# EAGLE library part RQ7E100ATTCR (library RQ7E100ATTCR)
RQ7E100ATTCR P-Channel MOSFET, 10 A, 30 V RQ7E100AT, 8-Pin TSMT ROHM Source: Datasheet <https://fscdn.rohm.com/en/products/databook/datasheet/discrete/transistor/mosfet/rq7e100attcr-e.pdf>
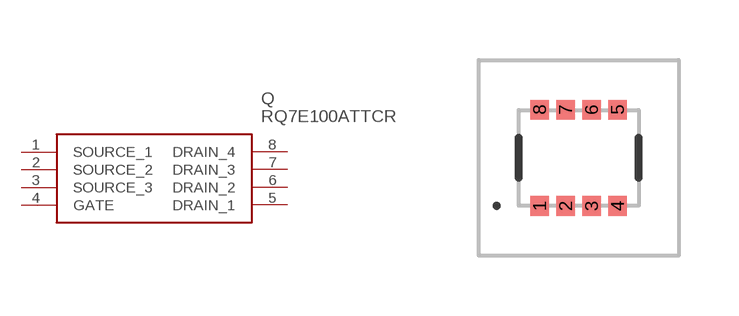
[diagram p0: symbol with the pads of RQ7E100ATTCR; footprint RQ7E100ATTCR]

Designator prefix Q

## RQ7E100ATTCR (Description: RQ7E100ATTCR P-Channel MOSFET, 10 A, 30 V RQ7E100AT, 8-Pin TSMT ROHM; Height: 0.85mm; Manufacturer_Name: ROHM Semiconductor; Manufacturer_Part_Number: RQ7E100ATTCR; Mouser_Part_Number: 755-RQ7E100ATTCR; Mouser_Price-Stock: https://www.mouser.co.uk/ProductDetail/ROHM-Semiconductor/RQ7E100ATTCR?qs=2WXlatMagcEGRiOPPzGC4A%3D%3D)  [RQ7E100ATTCR]
1  SOURCE_1
2  SOURCE_2
3  SOURCE_3
4  GATE
5  DRAIN_1
6  DRAIN_2
7  DRAIN_3
8  DRAIN_4

## Footprint RQ7E100ATTCR (pad centres in mm)
TSMT8 _2022
smd 0.47 x 0.49: 1 -0.975,-1.205; 2 -0.325,-1.205; 3 0.325,-1.205; 4 0.975,-1.205; 5 0.975,1.205; 6 0.325,1.205; 7 -0.325,1.205; 8 -0.975,1.205